# Altium schematic symbol library uart.SchLib: 1 symbol
Pins are listed as number, name and electrical type; pins without a type are passive.

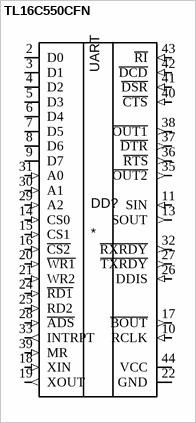
[diagram p0: symbol TL16C550CFN]

## TL16C550CFN
designator DD?
ASYNCHRONOUS COMMUNICATIONS ELEMENT; MP: TL16C550CFN; Package: None; Price: None; Value: *; Availability: Unavailable
footprint PLCC-44-R
pins: 1 NC_2 hidden, 2 D0 (io), 3 D1 (io), 4 D2 (io), 5 D3 (io), 6 D4 (io), 7 D5 (io), 8 D6 (io), 9 D7 (io), 10 RCLK (in), 11 SIN (in), 12 NC_3 hidden, 13 SOUT (out), 14 CS0 (in), 15 CS1 (in), 16 ~{CS2} (in), 17 ~{BOUT} (out), 18 XIN (in), 19 XOUT (out), 20 ~{WR1} (in), 21 WR2 (in), 22 GND (power), 23 NC_4 hidden, 24 ~{RD1} (in), 25 RD2 (in), 26 DDIS (in), 27 ~{TXRDY} (out), 28 ~{ADS} (in), 29 A2 (in), 30 A1 (in), 31 A0 (in), 32 ~{RXRDY} (out), 33 INTRPT (out), 34 NC hidden, 35 ~{OUT2} (out), 36 ~{RTS} (out), 37 ~{DTR} (out), 38 ~{OUT1} (out), 39 MR (in), 40 ~{CTS} (in), 41 ~{DSR} (in), 42 ~{DCD} (in), 43 ~{RI} (in), 44 VCC (power)
text: UART